# Altium integrated library ECA1JM100B.IntLib: 1 symbol
Pins are listed as number, name and electrical type; pins without a type are passive.

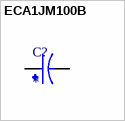
[diagram p0: symbol ECA1JM100B]

## ECA1JM100B
designator C?
10ÂµF 63V Aluminum Electrolytic Capacitors Radial, Can 2000 Hrs @ 85Â°C; MF: Panasonic; MP: ECA1JM100B; SnapEDA_Link: https://www.snapeda.com/parts/ECA1JM100B/Panasonic/view-part/?ref=snap; Package: RADIAL-2 Panasonic; Value: *; Check_prices: https://www.snapeda.com/parts/ECA1JM100B/Panasonic/view-part/?ref=eda
footprint CAPPRD500W50D500H1100
pins: N, P